# Altium footprint library 5013310607.PcbLib: 1 footprints
Each footprint in its own frame and in the unit in brackets; x right, y up, seen from the top. Pads: shape width x height; smd on the part's side, far side on the other; paste and mask are expansions set on the pad; w line width, h text height; cw(c..) or ccw(c..) is an arc to the next point about the centre after c.
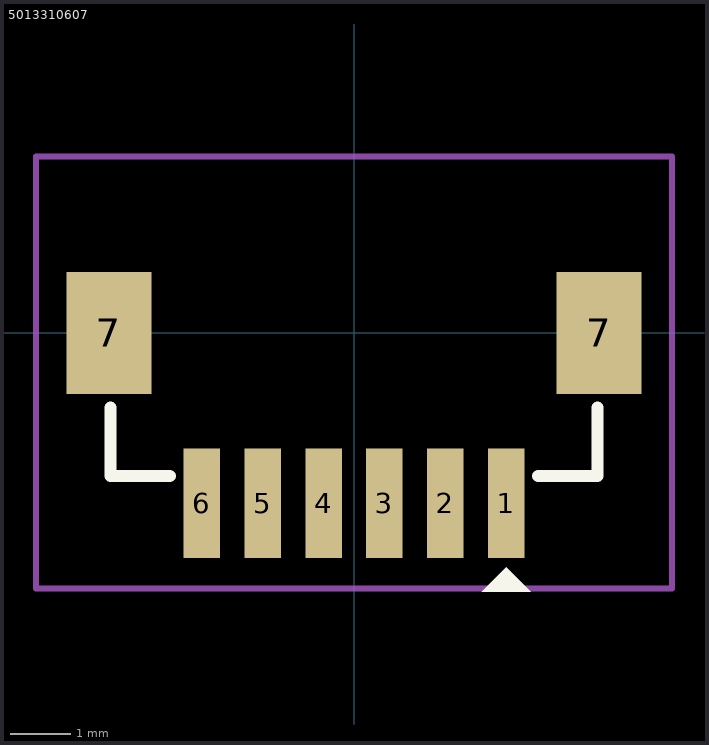
[diagram p0: the footprint, top view; thin cyan lines are the x and y axes]

## 5013310607 [mm]
height 5.54
pads (8):
  rect 0.6x1.8 smd: 1(2.5,-2.8) 2(1.5,-2.8) 3(0.5,-2.8) 4(-0.5,-2.8) 5(-1.5,-2.8) 6(-2.5,-2.8)
  rect 1.4x2 smd: 7(-4.025,0) 7(4.025,0)
Top Overlay:
  region: 2.9,-4.25 2.1,-4.25 2.5,-3.85
  lines w0.2: -4,-1.225 -4,-2.35 -3.025,-2.35 ; 3.025,-2.35 4,-2.35 4,-1.225
Top Courtyard:
  lines w0.1: -5.225,-1 -5.225,-4.2 ; -5.225,-4.2 5.225,-4.2 5.225,2.9 -5.225,2.9 -5.225,-4.2
3D body "501331-0607--3DModel-STEP-361473.STEP": height 5.52, standoff -0.03, extent -4.115,-2.95 4.125,2.4